# EAGLE library part LUMISWITCH (library jasons_stuff)
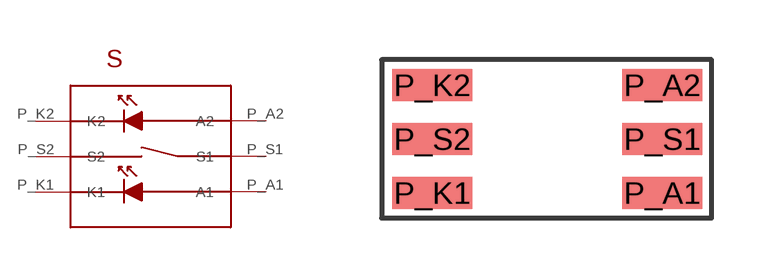
[diagram p2: symbol with the pads of LUMISWITCH; footprint LUMISWITCH]

Designator prefix S

## LUMISWITCH  [LUMISWITCH]
P_A1  A1
P_A2  A2
P_K1  K1
P_K2  K2
P_S1  S1
P_S2  S2

## Footprint LUMISWITCH (pad centres in mm)
smd 2 x 0.8: P_A1 5.75,-2.7; P_A2 5.75,0; P_K1 0,-2.7; P_K2 0,0; P_S1 5.75,-1.35; P_S2 0,-1.35